# Altium footprint library Inductor_THT.PcbLib: 269 footprints (part 16 of 17)
Each footprint in its own frame and in the unit in brackets; x right, y up, seen from the top. Pads: shape width x height; smd on the part's side, far side on the other; paste and mask are expansions set on the pad; w line width, h text height; cw(c..) or ccw(c..) is an arc to the next point about the centre after c.
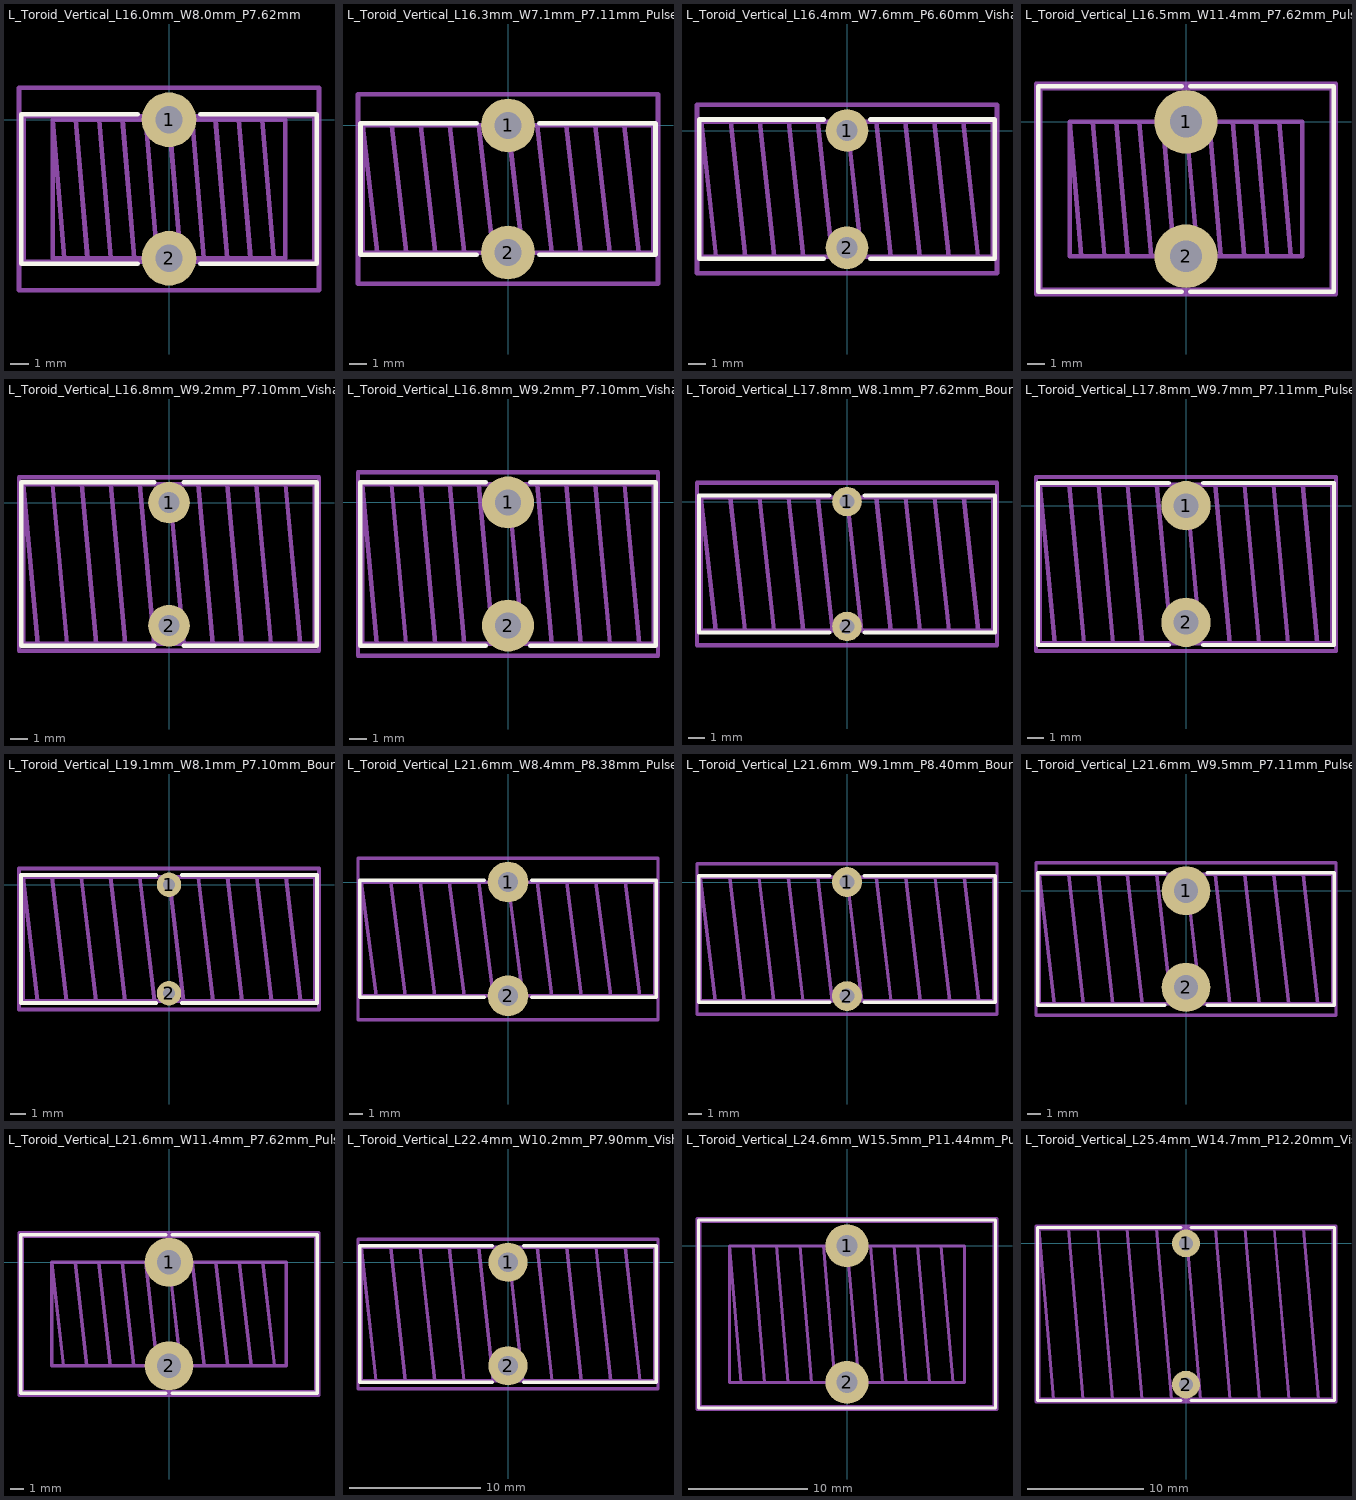
[diagram p15: the footprints below, top view; thin cyan lines are the x and y axes]

## L_Toroid_Vertical_L16.0mm_W8.0mm_P7.62mm [mm]
pads (2):
  round 3 hole 1.5: 1(0,0) 2(0,-7.62)
F.SilkS:
  lines w0.254: -1.712,-7.93 -8.12,-7.93 -8.12,0.31 -1.712,0.31 ; 1.712,-7.93 8.12,-7.93 8.12,0.31 1.712,0.31
Top Assembly:
  lines w0.254: -5.76,-7.62 -6.4,0 ; -5.12,0 -4.48,-7.62 ; -3.84,0 -3.2,-7.62 ; -2.56,0 -1.92,-7.62 ; -1.28,0 -0.64,-7.62 ; 0,0 0.64,-7.62 ; 1.28,0 1.92,-7.62 ; 2.56,0 3.2,-7.62 ; 3.84,0 4.48,-7.62 ; 5.12,0 5.76,-7.62 ; -6.4,0 6.4,0 6.4,-7.62 -6.4,-7.62 -6.4,0 ; -8,-7.81 8,-7.81 8,0.19 -8,0.19 -8,-7.81
  text "'.Designator'" at -0.237,-0.84 h1
Top Courtyard:
  lines w0.254: -8.25,-9.38 8.25,-9.38 8.25,1.76 -8.25,1.76 -8.25,-9.38
Top Designator:
  text ".Designator" at -7.618,-4.318 h1.52

## L_Toroid_Vertical_L16.3mm_W7.1mm_P7.11mm_Pulse_H [mm]
pads (2):
  round 3 hole 1.5: 1(0,0) 2(0,-7.11)
F.SilkS:
  lines w0.254: -1.736,-7.23 -8.25,-7.23 -8.25,0.12 -1.736,0.12 ; 1.736,-7.23 8.25,-7.23 8.25,0.12 1.736,0.12
Top Assembly:
  lines w0.254: -7.317,-7.11 -8.13,0 ; -6.504,0 -5.691,-7.11 ; -4.878,0 -4.065,-7.11 ; -3.252,0 -2.439,-7.11 ; -1.626,0 -0.813,-7.11 ; 0,0 0.813,-7.11 ; 1.626,0 2.439,-7.11 ; 3.252,0 4.065,-7.11 ; 4.878,0 5.691,-7.11 ; 6.504,0 7.317,-7.11 ; -8.13,0 8.13,0 8.13,-7.11 -8.13,-7.11 -8.13,0
  text "'.Designator'" at -0.492,-0.84 h1
Top Courtyard:
  lines w0.254: -8.39,-8.86 8.39,-8.86 8.39,1.75 -8.39,1.75 -8.39,-8.86
Top Designator:
  text ".Designator" at -7.618,-4.063 h1.52

## L_Toroid_Vertical_L16.4mm_W7.6mm_P6.60mm_Vishay_TJ3 [mm]
pads (2):
  round 2.4 hole 1.2: 1(0,0) 2(0,-6.6)
F.SilkS:
  lines w0.254: -1.3,-7.22 -8.32,-7.22 -8.32,0.62 -1.3,0.62 ; 1.3,-7.22 8.32,-7.22 8.32,0.62 1.3,0.62
Top Assembly:
  lines w0.254: -7.38,-7.1 -8.2,0.5 ; -6.56,0.5 -5.74,-7.1 ; -4.92,0.5 -4.1,-7.1 ; -3.28,0.5 -2.46,-7.1 ; -1.64,0.5 -0.82,-7.1 ; 0,0.5 0.82,-7.1 ; 1.64,0.5 2.46,-7.1 ; 3.28,0.5 4.1,-7.1 ; 4.92,0.5 5.74,-7.1 ; 6.56,0.5 7.38,-7.1 ; -8.2,0.5 8.2,0.5 8.2,-7.1 -8.2,-7.1 -8.2,0.5
  text "'.Designator'" at -0.747,-0.84 h1
Top Courtyard:
  lines w0.254: -8.45,-8.05 8.45,-8.05 8.45,1.46 -8.45,1.46 -8.45,-8.05
Top Designator:
  text ".Designator" at -7.618,-3.803 h1.52

## L_Toroid_Vertical_L16.5mm_W11.4mm_P7.62mm_Pulse_KM-2 [mm]
pads (2):
  round 3.6 hole 1.8: 1(0,0) 2(0,-7.62)
F.SilkS:
  lines w0.254: -0.247,-9.645 -8.375,-9.645 -8.375,2.025 -0.247,2.025 ; 0.247,-9.645 8.375,-9.645 8.375,2.025 0.247,2.025
Top Assembly:
  lines w0.254: -5.944,-7.62 -6.604,0 ; -5.283,0 -4.623,-7.62 ; -3.962,0 -3.302,-7.62 ; -2.642,0 -1.981,-7.62 ; -1.321,0 -0.66,-7.62 ; 0,0 0.66,-7.62 ; 1.321,0 1.981,-7.62 ; 2.642,0 3.302,-7.62 ; 3.962,0 4.623,-7.62 ; 5.283,0 5.944,-7.62 ; -6.604,0 6.604,0 6.604,-7.62 -6.604,-7.62 -6.604,0 ; -8.255,-9.525 8.255,-9.525 8.255,1.905 -8.255,1.905 -8.255,-9.525
  text "'.Designator'" at -0.237,-0.84 h1
Top Courtyard:
  lines w0.254: -8.51,-9.78 8.51,-9.78 8.51,2.16 -8.51,2.16 -8.51,-9.78
Top Designator:
  text ".Designator" at -7.618,-4.318 h1.52

## L_Toroid_Vertical_L16.8mm_W9.2mm_P7.10mm_Vishay_TJ3 [mm]
pads (2):
  round 2.4 hole 1.2: 1(0,0) 2(0,-7.1)
F.SilkS:
  lines w0.254: -0.839,-8.27 -8.52,-8.27 -8.52,1.17 -0.839,1.17 ; 0.839,-8.27 8.52,-8.27 8.52,1.17 0.839,1.17
Top Assembly:
  lines w0.254: -7.56,-8.15 -8.4,1.05 ; -6.72,1.05 -5.88,-8.15 ; -5.04,1.05 -4.2,-8.15 ; -3.36,1.05 -2.52,-8.15 ; -1.68,1.05 -0.84,-8.15 ; 0,1.05 0.84,-8.15 ; 1.68,1.05 2.52,-8.15 ; 3.36,1.05 4.2,-8.15 ; 5.04,1.05 5.88,-8.15 ; 6.72,1.05 7.56,-8.15 ; -8.4,1.05 8.4,1.05 8.4,-8.15 -8.4,-8.15 -8.4,1.05
  text "'.Designator'" at -0.497,-0.84 h1
Top Courtyard:
  lines w0.254: -8.65,-8.55 8.65,-8.55 8.65,1.46 -8.65,1.46 -8.65,-8.55
Top Designator:
  text ".Designator" at -7.618,-4.053 h1.52

## L_Toroid_Vertical_L16.8mm_W9.2mm_P7.10mm_Vishay_TJ3_BigPads [mm]
pads (2):
  round 3 hole 1.5: 1(0,0) 2(0,-7.1)
F.SilkS:
  lines w0.254: -1.288,-8.27 -8.52,-8.27 -8.52,1.17 -1.288,1.17 ; 1.288,-8.27 8.52,-8.27 8.52,1.17 1.288,1.17
Top Assembly:
  lines w0.254: -7.56,-8.15 -8.4,1.05 ; -6.72,1.05 -5.88,-8.15 ; -5.04,1.05 -4.2,-8.15 ; -3.36,1.05 -2.52,-8.15 ; -1.68,1.05 -0.84,-8.15 ; 0,1.05 0.84,-8.15 ; 1.68,1.05 2.52,-8.15 ; 3.36,1.05 4.2,-8.15 ; 5.04,1.05 5.88,-8.15 ; 6.72,1.05 7.56,-8.15 ; -8.4,1.05 8.4,1.05 8.4,-8.15 -8.4,-8.15 -8.4,1.05
  text "'.Designator'" at -0.497,-0.84 h1
Top Courtyard:
  lines w0.254: -8.65,-8.85 8.65,-8.85 8.65,1.75 -8.65,1.75 -8.65,-8.85
Top Designator:
  text ".Designator" at -7.618,-4.058 h1.52

## L_Toroid_Vertical_L17.8mm_W8.1mm_P7.62mm_Bourns_5700 [mm]
pads (2):
  round 1.8 hole 0.9: 1(0,0) 2(0,-7.62)
F.SilkS:
  lines w0.254: -1.082,-7.98 -9.02,-7.98 -9.02,0.36 -1.082,0.36 ; 1.082,-7.98 9.02,-7.98 9.02,0.36 1.082,0.36
Top Assembly:
  lines w0.254: -8.01,-7.86 -8.9,0.24 ; -7.12,0.24 -6.23,-7.86 ; -5.34,0.24 -4.45,-7.86 ; -3.56,0.24 -2.67,-7.86 ; -1.78,0.24 -0.89,-7.86 ; 0,0.24 0.89,-7.86 ; 1.78,0.24 2.67,-7.86 ; 3.56,0.24 4.45,-7.86 ; 5.34,0.24 6.23,-7.86 ; 7.12,0.24 8.01,-7.86 ; -8.9,0.24 8.9,0.24 8.9,-7.86 -8.9,-7.86 -8.9,0.24
  text "'.Designator'" at -0.237,-0.84 h1
Top Courtyard:
  lines w0.254: -9.15,-8.77 9.15,-8.77 9.15,1.15 -9.15,1.15 -9.15,-8.77
Top Designator:
  text ".Designator" at -7.618,-4.318 h1.52

## L_Toroid_Vertical_L17.8mm_W9.7mm_P7.11mm_Pulse_B [mm]
pads (2):
  round 3 hole 1.5: 1(0,0) 2(0,-7.11)
F.SilkS:
  lines w0.254: -1.047,-8.5 -9.01,-8.5 -9.01,1.39 -1.047,1.39 ; 1.047,-8.5 9.01,-8.5 9.01,1.39 1.047,1.39
Top Assembly:
  lines w0.254: -8.001,-8.38 -8.89,1.27 ; -7.112,1.27 -6.223,-8.38 ; -5.334,1.27 -4.445,-8.38 ; -3.556,1.27 -2.667,-8.38 ; -1.778,1.27 -0.889,-8.38 ; 0,1.27 0.889,-8.38 ; 1.778,1.27 2.667,-8.38 ; 3.556,1.27 4.445,-8.38 ; 5.334,1.27 6.223,-8.38 ; 7.112,1.27 8.001,-8.38 ; -8.89,1.27 8.89,1.27 8.89,-8.38 -8.89,-8.38 -8.89,1.27
  text "'.Designator'" at -0.492,-0.84 h1
Top Courtyard:
  lines w0.254: -9.14,-8.86 9.14,-8.86 9.14,1.75 -9.14,1.75 -9.14,-8.86
Top Designator:
  text ".Designator" at -7.618,-4.063 h1.52

## L_Toroid_Vertical_L19.1mm_W8.1mm_P7.10mm_Bourns_5700 [mm]
pads (2):
  round 1.6 hole 0.8: 1(0,0) 2(0,-7.1)
F.SilkS:
  lines w0.254: -0.835,-7.72 -9.67,-7.72 -9.67,0.62 -0.835,0.62 ; 0.835,-7.72 9.67,-7.72 9.67,0.62 0.835,0.62
Top Assembly:
  lines w0.254: -8.595,-7.6 -9.55,0.5 ; -7.64,0.5 -6.685,-7.6 ; -5.73,0.5 -4.775,-7.6 ; -3.82,0.5 -2.865,-7.6 ; -1.91,0.5 -0.955,-7.6 ; 0,0.5 0.955,-7.6 ; 1.91,0.5 2.865,-7.6 ; 3.82,0.5 4.775,-7.6 ; 5.73,0.5 6.685,-7.6 ; 7.64,0.5 8.595,-7.6 ; -9.55,0.5 9.55,0.5 9.55,-7.6 -9.55,-7.6 -9.55,0.5
  text "'.Designator'" at -0.497,-0.84 h1
Top Courtyard:
  lines w0.254: -9.8,-8.15 9.8,-8.15 9.8,1.05 -9.8,1.05 -9.8,-8.15
Top Designator:
  text ".Designator" at -7.618,-4.058 h1.52

## L_Toroid_Vertical_L21.6mm_W8.4mm_P8.38mm_Pulse_G [mm]
pads (2):
  round 3 hole 1.5: 1(0,0) 2(0,-8.38)
F.SilkS:
  lines w0.254: -1.736,-8.5 -10.915,-8.5 -10.915,0.12 -1.736,0.12 ; 1.736,-8.5 10.915,-8.5 10.915,0.12 1.736,0.12
Top Assembly:
  lines w0.254: -9.716,-8.38 -10.795,0 ; -8.636,0 -7.556,-8.38 ; -6.477,0 -5.397,-8.38 ; -4.318,0 -3.238,-8.38 ; -2.159,0 -1.079,-8.38 ; 0,0 1.079,-8.38 ; 2.159,0 3.238,-8.38 ; 4.318,0 5.397,-8.38 ; 6.477,0 7.556,-8.38 ; 8.636,0 9.716,-8.38 ; -10.795,0 10.795,0 10.795,-8.38 -10.795,-8.38 -10.795,0
  text "'.Designator'" at 0.143,-0.84 h1
Top Courtyard:
  lines w0.254: -11.05,-10.14 11.05,-10.14 11.05,1.75 -11.05,1.75 -11.05,-10.14
Top Designator:
  text ".Designator" at -7.618,-4.703 h1.52

## L_Toroid_Vertical_L21.6mm_W9.1mm_P8.40mm_Bourns_5700 [mm]
pads (2):
  round 2.2 hole 1.1: 1(0,0) 2(0,-8.4)
F.SilkS:
  lines w0.254: -1.255,-8.87 -10.92,-8.87 -10.92,0.47 -1.255,0.47 ; 1.255,-8.87 10.92,-8.87 10.92,0.47 1.255,0.47
Top Assembly:
  lines w0.254: -9.72,-8.75 -10.8,0.35 ; -8.64,0.35 -7.56,-8.75 ; -6.48,0.35 -5.4,-8.75 ; -4.32,0.35 -3.24,-8.75 ; -2.16,0.35 -1.08,-8.75 ; 0,0.35 1.08,-8.75 ; 2.16,0.35 3.24,-8.75 ; 4.32,0.35 5.4,-8.75 ; 6.48,0.35 7.56,-8.75 ; 8.64,0.35 9.72,-8.75 ; -10.8,0.35 10.8,0.35 10.8,-8.75 -10.8,-8.75 -10.8,0.35
  text "'.Designator'" at 0.153,-0.84 h1
Top Courtyard:
  lines w0.254: -11.05,-9.75 11.05,-9.75 11.05,1.36 -11.05,1.36 -11.05,-9.75
Top Designator:
  text ".Designator" at -7.618,-4.703 h1.52

## L_Toroid_Vertical_L21.6mm_W9.5mm_P7.11mm_Pulse_C [mm]
pads (2):
  round 3.6 hole 1.8: 1(0,0) 2(0,-7.11)
F.SilkS:
  lines w0.254: -1.547,-8.44 -10.915,-8.44 -10.915,1.33 -1.547,1.33 ; 1.547,-8.44 10.915,-8.44 10.915,1.33 1.547,1.33
Top Assembly:
  lines w0.254: -9.716,-8.32 -10.795,1.21 ; -8.636,1.21 -7.556,-8.32 ; -6.477,1.21 -5.397,-8.32 ; -4.318,1.21 -3.238,-8.32 ; -2.159,1.21 -1.079,-8.32 ; 0,1.21 1.079,-8.32 ; 2.159,1.21 3.238,-8.32 ; 4.318,1.21 5.397,-8.32 ; 6.477,1.21 7.556,-8.32 ; 8.636,1.21 9.716,-8.32 ; -10.795,1.21 10.795,1.21 10.795,-8.32 -10.795,-8.32 -10.795,1.21
  text "'.Designator'" at -0.492,-0.84 h1
Top Courtyard:
  lines w0.254: -11.05,-9.16 11.05,-9.16 11.05,2.06 -11.05,2.06 -11.05,-9.16
Top Designator:
  text ".Designator" at -7.618,-4.058 h1.52

## L_Toroid_Vertical_L21.6mm_W11.4mm_P7.62mm_Pulse_KM-3 [mm]
pads (2):
  round 3.6 hole 1.8: 1(0,0) 2(0,-7.62)
F.SilkS:
  lines w0.254: -0.247,-9.645 -10.915,-9.645 -10.915,2.025 -0.247,2.025 ; 0.247,-9.645 10.915,-9.645 10.915,2.025 0.247,2.025
Top Assembly:
  lines w0.254: -7.772,-7.62 -8.636,0 ; -6.909,0 -6.045,-7.62 ; -5.182,0 -4.318,-7.62 ; -3.454,0 -2.591,-7.62 ; -1.727,0 -0.864,-7.62 ; 0,0 0.864,-7.62 ; 1.727,0 2.591,-7.62 ; 3.454,0 4.318,-7.62 ; 5.182,0 6.045,-7.62 ; 6.909,0 7.772,-7.62 ; -8.636,0 8.636,0 8.636,-7.62 -8.636,-7.62 -8.636,0 ; -10.795,-9.525 10.795,-9.525 10.795,1.905 -10.795,1.905 -10.795,-9.525
  text "'.Designator'" at -0.237,-0.84 h1
Top Courtyard:
  lines w0.254: -11.05,-9.78 11.05,-9.78 11.05,2.16 -11.05,2.16 -11.05,-9.78
Top Designator:
  text ".Designator" at -7.618,-4.318 h1.52

## L_Toroid_Vertical_L22.4mm_W10.2mm_P7.90mm_Vishay_TJ4 [mm]
pads (2):
  round 3 hole 1.5: 1(0,0) 2(0,-7.9)
F.SilkS:
  lines w0.254: -1.189,-9.17 -11.32,-9.17 -11.32,1.27 -1.189,1.27 ; 1.189,-9.17 11.32,-9.17 11.32,1.27 1.189,1.27
Top Assembly:
  lines w0.254: -10.08,-9.05 -11.2,1.15 ; -8.96,1.15 -7.84,-9.05 ; -6.72,1.15 -5.6,-9.05 ; -4.48,1.15 -3.36,-9.05 ; -2.24,1.15 -1.12,-9.05 ; 0,1.15 1.12,-9.05 ; 2.24,1.15 3.36,-9.05 ; 4.48,1.15 5.6,-9.05 ; 6.72,1.15 7.84,-9.05 ; 8.96,1.15 10.08,-9.05 ; -11.2,1.15 11.2,1.15 11.2,-9.05 -11.2,-9.05 -11.2,1.15
  text "'.Designator'" at -0.097,-0.84 h1
Top Courtyard:
  lines w0.254: -11.45,-9.65 11.45,-9.65 11.45,1.75 -11.45,1.75 -11.45,-9.65
Top Designator:
  text ".Designator" at -7.618,-4.458 h1.52

## L_Toroid_Vertical_L24.6mm_W15.5mm_P11.44mm_Pulse_KM-4 [mm]
pads (2):
  round 3.6 hole 1.8: 1(0,0) 2(0,-11.44)
F.SilkS:
  lines w0.254: -12.44,-13.59 12.44,-13.59 12.44,2.15 -12.44,2.15 -12.44,-13.59
Top Assembly:
  lines w0.254: -8.87,-11.44 -9.856,0 ; -7.885,0 -6.899,-11.44 ; -5.914,0 -4.928,-11.44 ; -3.942,0 -2.957,-11.44 ; -1.971,0 -0.986,-11.44 ; 0,0 0.986,-11.44 ; 1.971,0 2.957,-11.44 ; 3.942,0 4.928,-11.44 ; 5.914,0 6.899,-11.44 ; 7.885,0 8.87,-11.44 ; -9.856,0 9.856,0 9.856,-11.44 -9.856,-11.44 -9.856,0 ; -12.32,-13.47 12.32,-13.47 12.32,2.03 -12.32,2.03 -12.32,-13.47
  text "'.Designator'" at 1.673,-0.84 h1
Top Courtyard:
  lines w0.254: -12.57,-13.72 12.57,-13.72 12.57,2.29 -12.57,2.29 -12.57,-13.72
Top Designator:
  text ".Designator" at -7.618,-6.223 h1.52

## L_Toroid_Vertical_L25.4mm_W14.7mm_P12.20mm_Vishay_TJ5 [mm]
pads (2):
  round 2.4 hole 1.2: 1(0,0) 2(0,-12.2)
F.SilkS:
  lines w0.254: -0.444,-13.57 -12.82,-13.57 -12.82,1.37 -0.444,1.37 ; 0.444,-13.57 12.82,-13.57 12.82,1.37 0.444,1.37
Top Assembly:
  lines w0.254: -11.43,-13.45 -12.7,1.25 ; -10.16,1.25 -8.89,-13.45 ; -7.62,1.25 -6.35,-13.45 ; -5.08,1.25 -3.81,-13.45 ; -2.54,1.25 -1.27,-13.45 ; 0,1.25 1.27,-13.45 ; 2.54,1.25 3.81,-13.45 ; 5.08,1.25 6.35,-13.45 ; 7.62,1.25 8.89,-13.45 ; 10.16,1.25 11.43,-13.45 ; -12.7,1.25 12.7,1.25 12.7,-13.45 -12.7,-13.45 -12.7,1.25
  text "'.Designator'" at 2.053,-0.84 h1
Top Courtyard:
  lines w0.254: -12.95,-13.7 12.95,-13.7 12.95,1.5 -12.95,1.5 -12.95,-13.7
Top Designator:
  text ".Designator" at -7.618,-6.608 h1.52